# EAGLE library part INA219 (library bschulz)
INA219 - Zero Drift Bidirectional Current/Power Monitor with I2C Interface Characteristics: Vcc: 3V ~ 5.5V Iq: 700uA Common Mode Range: 0V ~ 26V Operating Temperature: -40°C to 125°C Digikey: SOIC (D) <https://www.digikey.com/product-detail/en/texas-instruments/INA219AIDR/296-23978-1-ND/1984895> SOT-23 (DCN) <https://www.digikey.com/product-detail/en/texas-instruments/INA219AIDCNR/296-23770-1-ND/1952550>
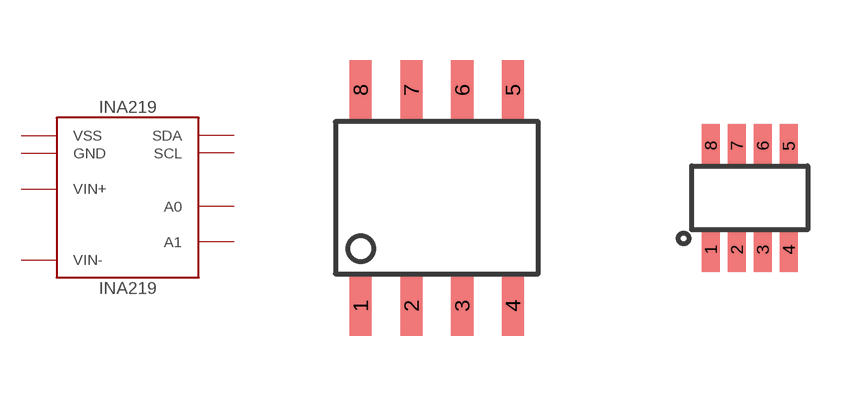
[diagram p2: symbol with the pads of SOIC_8; footprints SOIC_8, DCN_R-PDSO-G8]

Designator prefix U

## INA219D (DIGIKEY: 296-23978-1-ND; MF: TI; MPN: INA219AIDR)  [SOIC_8]
1  A1  in
2  A0  in
3  SDA
4  SCL  in
5  VSS  pwr
6  GND  pwr
7  VIN-  in
8  VIN+  in

## INA219DCN (DIGIKEY: 296-23770-1-ND; MF: TI; MPN: INA219AIDCNR)  [DCN_R-PDSO-G8]
1  VIN+  in
2  VIN-  in
3  GND  pwr
4  VSS  pwr
5  SCL  in
6  SDA
7  A0  in
8  A1  in

## Footprint SOIC_8 (pad centres in mm)
smd 0.55 x 1.5: 1 -2.54,-2.7; 2 -1.27,-2.7; 3 0,-2.7; 4 1.27,-2.7; 5 1.27,2.7; 6 0,2.7; 7 -1.27,2.7; 8 -2.54,2.7

## Footprint DCN_R-PDSO-G8 (pad centres in mm)
smd 0.45 x 1.1: 1 -0.975,-1.3; 2 -0.325,-1.3; 3 0.325,-1.3; 4 0.975,-1.3; 5 0.975,1.3; 6 0.325,1.3; 7 -0.325,1.3; 8 -0.975,1.3